# Altium schematic symbol library DTM13-12PA.SchLib: 1 symbol
Pins are listed as number, name and electrical type; pins without a type are passive.

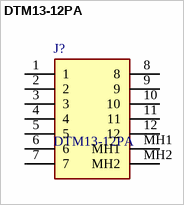
[diagram p0: symbol DTM13-12PA]

## DTM13-12PA
designator J?
Body Features: Connector & Keying Code A | Primary Product Color Gray | Configuration Features: Number of Sections 1 | PCB Mount Orientation Right Angle | Number of Signal Positions 12 | Number of Rows 2 | Number of Positions 12 | Contact Features: Contact Mating Area Plating Material Tin | Contact Current Rating (Max) 7.5 AMP | Contact Size Size 20 | Mating Pin Diameter 1.02 MM | Mating Pin Diameter .04 INCH | Contact Type Pin | Dimensions: Connector Length 38.23 MM | Profile Height from PCB 35.54 MM | PCB; Manufacturer_Name: TE Connectivity; Geometry.Height: 35.18mm; Mouser Part Number: 571-DTM13-12PA; Mouser Price/Stock: https://www.mouser.co.uk/ProductDetail/TE-Connectivity-DEUTSCH/DTM13-12PA?qs=cgQJD%2FpJz0wRVbmAAJ6nZw%3D%3D; Manufacturer_Part_Number: DTM13-12PA; Datasheet Link: https://www.te.com/commerce/DocumentDelivery/DDEController?Action=srchrtrv&DocNm=1-1773962-8&DocType=Data%20Sheet&DocLang=English&PartCntxt=DTM13-12PA&DocFormat=pdf
footprint DTM1312PA
pins: 1, 2, 3, 4, 5, 6, 7, 8, 9, 10, 11, 12, MH1, MH2